# EAGLE library part AO4606 (library AO4606)
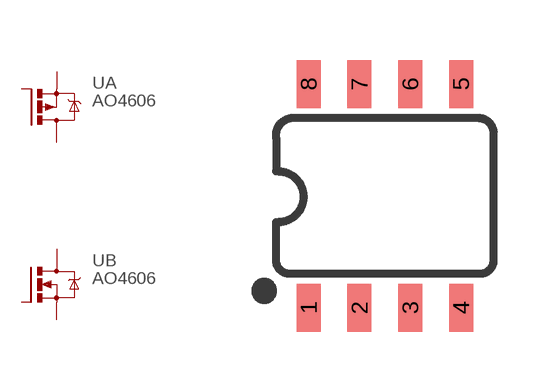
[diagram p0: symbol with the pads of SO08; footprint SO08]

Designator prefix U; gates A=MFPS B=MFNS

## AO4606  [SO08]
1  B:S  pas
2  B:G  pas
3  A:S  pas
4  A:G  pas
5  A:D  pas
6  A:D  pas
7  B:D  pas
8  B:D  pas

## Footprint SO08 (pad centres in mm)
SOIC, 0.15 inch width
smd 0.6 x 1.2: 1 -1.905,-2.8; 2 -0.635,-2.8; 3 0.635,-2.8; 4 1.905,-2.8; 5 1.905,2.8; 6 0.635,2.8; 7 -0.635,2.8; 8 -1.905,2.8